# Altium schematic symbol library Res1-124k.SCHLIB: 1 symbol
Pins are listed as number, name and electrical type; pins without a type are passive.

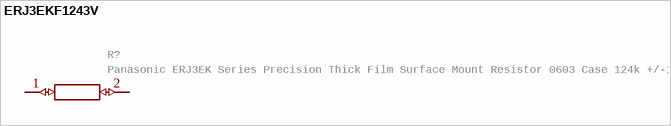
[diagram p0: symbol ERJ3EKF1243V]

## ERJ3EKF1243V
designator R?, comment Panasonic ERJ3EK Series Precision Thick Film Surface Mount Resistor 0603 Case 124k +/-1% 0.1W +/-100ppm/C   Source:  Datasheet
GateName_1: G$1; SymbolName_1: ERJ3EKF1243V; LibraryName: Res1-124k; DeviceSetName: ERJ3EKF1243V; Package: RESC1608X55N; Manufacturer_Name: Panasonic; Manufacturer_Part_Number: ERJ3EKF1243V; Description: Panasonic ERJ3EK Series Precision Thick Film Surface Mount Resistor 0603 Case 124k +/-1% 0.1W +/-100ppm/C; Height: 0.55mm
footprint RESC1608X55N
pins: 1 (io), 2 (io)